# Altium schematic symbol library ic_opamp.SchLib: 7 symbols
Pins are listed as number, name and electrical type; pins without a type are passive.

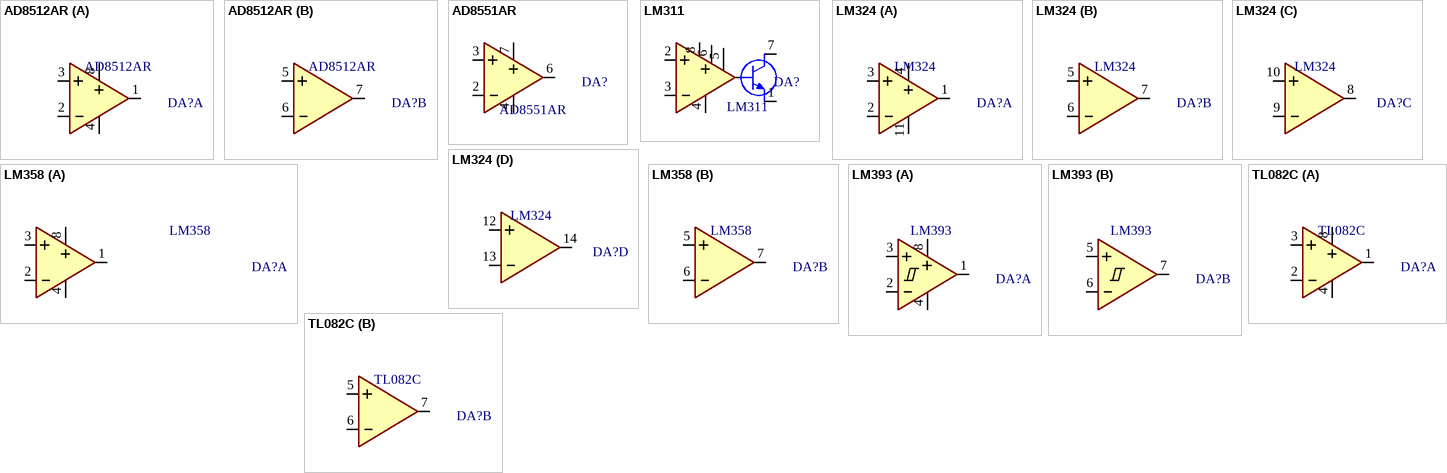
[diagram p0: symbols AD8512AR to TL082C]

## AD8512AR
designator DA?
30V 8MHz 20V/us; Manufacturer: Analog Devices; Power/Voltage: ±15V; ManufacturerPartNumber: AD8512AR; RevisionDate: 11-11-2018; Type: ic-opamp; Package: SOIC-8; Name: AD8512AR
footprint SOIC-8 (SOIC, 8-Leads, Body 4,90x3,95mm, Pitch 1,27mm, IPC Medium Density)
footprint MSOP-8/0.65mm (TSOP, 8-Leads, Body 3,00x3,00mm, Pitch 0,65mm, IPC Medium Density)
part A pins: 1, 2, 3, 4, 8
part B pins: 5, 6 2, 7 1

## AD8551AR
designator DA?
Rail-to-Rail 5.5V 1MHz 0.5V/us; ManufacturerPartNumber: AD8551ARZ-REEL; Manufacturer: Analog Devices; RevisionDate: 12-11-2018; Type: ic-opamp; Power/Voltage: 5.5V; Package: SOIC-8; Name: AD8551AR
footprint SOIC-8 (SOIC, 8-Leads, Body 4,90x3,95mm, Pitch 1,27mm, IPC Medium Density)
pins: 2, 3, 4, 6, 7

## LM311
designator DA?
Comparator ±15V 5MHz; ManufacturerPartNumber: LM311DR; Manufacturer: Texas Instruments; Power/Voltage: 5V; RevisionDate: 12-11-2018; Type: ic-comparator; Package: SOIC-8; Name: LM311
footprint SOIC-8 (SOIC, 8-Leads, Body 4,90x3,95mm, Pitch 1,27mm, IPC Medium Density)
pins: 1, 2, 3, 4, 5 BAL, 6 STRB, 7, 8

## LM324
designator DA?
36V 0.7MHz 0.3V/us; Manufacturer: ST Microelectronics; ManufacturerPartNumber: LM324DT; Power/Voltage: ±18V; RevisionDate: 20-11-2018; Type: ic-opamp; Package: SOIC-14; Name: LM324
footprint SOIC-14 (SOIC, 14-Leads, Body 8,70x3,95mm, Pitch 1,27mm, IPC Medium Density)
footprint DIP-14
part A pins: 1, 2, 3, 4, 11
part B pins: 5, 6 2, 7
part C pins: 8, 9, 10
part D pins: 12, 13, 14

## LM358
designator DA?
36V 0.7MHz 0.3V/us; Manufacturer: ST Microelectronics; ManufacturerPartNumber: LM358DT; Power/Voltage: ±18V; Type: ic-opamp; RevisionDate: 20-11-2018; Package: SOIC-8; Name: LM358
footprint SOIC-8 (SOIC, 8-Leads, Body 4,90x3,95mm, Pitch 1,27mm, IPC Medium Density)
footprint DIP-8
part A pins: 1, 2, 3, 4, 8
part B pins: 5, 6 2, 7 1

## LM393
designator DA?
Comparator 36V 1MHz; Manufacturer: ST Microelectronics; ManufacturerPartNumber: LM393DT; Power/Voltage: ±18V; Type: ic-comparator; RevisionDate: 20-11-2018; Package: SOIC-8; Name: LM393
footprint SOIC-8 (SOIC, 8-Leads, Body 4,90x3,95mm, Pitch 1,27mm, IPC Medium Density)
footprint DIP-8
part A pins: 1, 2, 3, 4, 8
part B pins: 5, 6 2, 7 1

## TL082C
designator DA?
30V 4MHz 13V/us; Manufacturer: Texas Instruments; ManufacturerPartNumber: TL082CDR; Power/Voltage: ±15V; Type: ic-opamp; RevisionDate: 20-11-2018; Package: SOIC-8; Name: TL082C
footprint SOIC-8 (SOIC, 8-Leads, Body 4,90x3,95mm, Pitch 1,27mm, IPC Medium Density)
footprint DIP-8
part A pins: 1, 2, 3, 4, 8
part B pins: 5, 6 2, 7 1